# EAGLE library part CAP1166 (library pimoroni-ics)
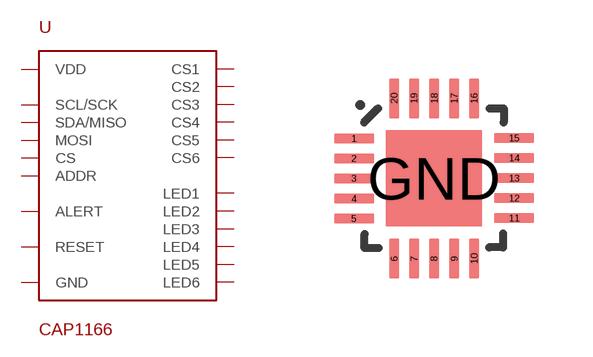
[diagram p9: symbol with the pads of QFN-20; footprint QFN-20]

Designator prefix -

## CAP1166  [QFN-20]
1  CS
2  MOSI
3  SDA/MISO
4  SCL/SCK
5  LED1
6  LED2
7  LED3
8  LED4
9  LED5
10  LED6
11  ALERT
12  ADDR
13  CS6
14  CS5
15  CS4
16  CS3
17  CS2
18  CS1
19  VDD
20  RESET
GND  GND

## Footprint QFN-20 (pad centres in mm)
smd 1 x 0.25: 1 -2.005,1; 2 -2.005,0.502; 3 -2.005,0.004; 4 -2.005,-0.504; 5 -2.005,-1.002; 11 2.005,-0.99; 12 2.005,-0.492; 13 2.005,0.006; 14 2.005,0.514; 15 2.005,1.012
smd 0.25 x 1: 6 -1,-2.005; 7 -0.502,-2.005; 8 -0.004,-2.005; 9 0.504,-2.005; 10 1.002,-2.005; 16 1,2.005; 17 0.502,2.005; 18 0.004,2.005; 19 -0.504,2.005; 20 -1.002,2.005
smd 2.4 x 2.4: GND 0,0